# Altium footprint library sensornode.PcbLib: 55 footprints (part 1 of 4)
Each footprint in its own frame and in the unit in brackets; x right, y up, seen from the top. Pads: shape width x height; smd on the part's side, far side on the other; paste and mask are expansions set on the pad; w line width, h text height; cw(c..) or ccw(c..) is an arc to the next point about the centre after c.
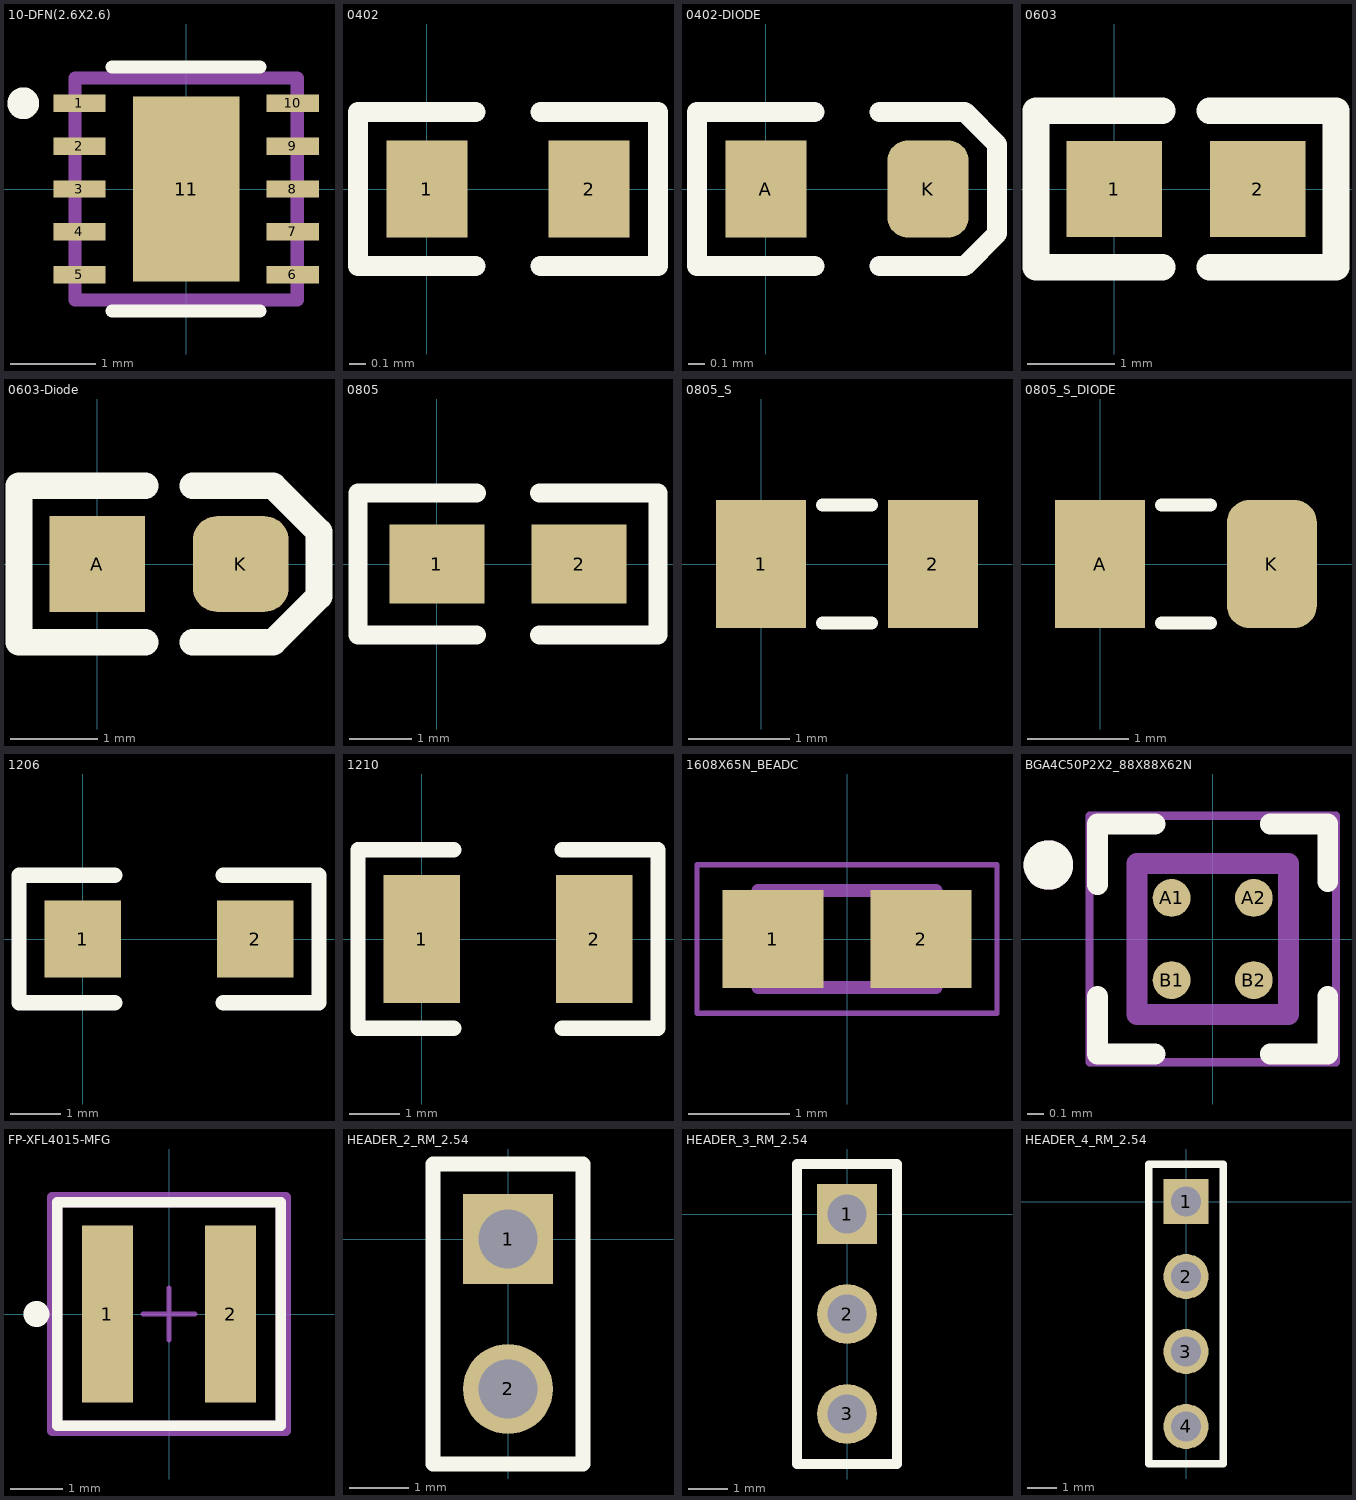
[diagram p0: the footprints below, top view; thin cyan lines are the x and y axes]

## 10-DFN(2.6X2.6) [mil]
pads (11):
  rect 24x8 smd: 1(-49,39.37) 2(-49,19.68) 3(-49,0) 4(-49,-19.68) 5(-49,-39.37) 6(49,-39.37) 7(49,-19.68) 8(49,0) 9(49,19.68) 10(49,39.37)
  rect 49x85 smd paste-78.74: 11(0,0)
Top Overlay:
  circle w10.63: c-74.8,39.37 r1.97
  lines w6: -34,-56 34,-56 ; -34,56 34,56
Mechanical 13:
  lines w6: -51,-51 51,-51 51,51 -51,51 -51,-51
3D body "step_temp.STEP": height 19.68, standoff 0, extent -51.18,-51.18 51.18,51.18

## 0402 [mil]
pads (2):
  rect 20x24 smd: 1(0,0) 2(40,0)
Top Overlay:
  lines w5: 12,-19 -17,-19 -17,19 12,19 ; 28,-19 57,-19 57,19 28,19
3D body: height 17.72, standoff 0, extent -8,-10 48,10

## 0402-DIODE [mil]
pads (2):
  rect 20x24 smd: A(0,0)
  rrect50% 20x24 smd: K(40,0)
Top Overlay:
  lines w5: 12,-19 -17,-19 -17,19 12,19 ; 28,-19 49,-19 57,-11 57,11 49,19 28,19
3D body: height 17.72, standoff 0, extent -8,-10 48,10

## 0603 [mm]
pads (2):
  rect 1.1x1.1 smd: 1(0,0) 2(1.65,0)
Top Overlay:
  lines w0.305: 0.55,-0.9 -0.9,-0.9 -0.9,0.9 0.55,0.9 ; 1.1,-0.9 2.55,-0.9 2.55,0.9 1.1,0.9
3D body: height 0.45, standoff 0, extent -0.45,-0.425 2.1,0.425

## 0603-Diode [mm]
pads (2):
  rect 1.1x1.1 smd: A(0,0)
  rrect50% 1.1x1.1 smd: K(1.65,0)
Top Overlay:
  lines w0.305: 0.55,-0.9 -0.9,-0.9 -0.9,0.9 0.55,0.9 ; 1.1,-0.9 2.021,-0.9 2.55,-0.371 2.55,0.371 2.021,0.9 1.1,0.9
3D body: height 0.45, standoff 0, extent -0.45,-0.425 2.1,0.425

## 0805 [mil]
pads (2):
  rect 60x50 smd: 1(0,0) 2(90,0)
Top Overlay:
  lines w12: 25,-45 -50,-45 -50,45 25,45 ; 65,-45 140,-45 140,45 65,45
3D body: height 51.18, standoff 0, extent 4.92,-24.61 84.65,24.61

## 0805_S [mil]
pads (2):
  rect 35x50 smd: 1(0,0) 2(67,0)
Top Overlay:
  lines w5: 24,-23 43,-23 ; 24,23 43,23
3D body: height 44, standoff 0, extent -7,-25 17,25
3D body: height 43, standoff 0, extent -6.08,-24.61 73.65,24.61
3D body: height 44, standoff 0, extent 50,-25 74,25

## 0805_S_DIODE [mil]
pads (2):
  rect 35x50 smd: A(0,0)
  rrect50% 35x50 smd: K(67,0)
Top Overlay:
  lines w5: 24,-23 43,-23 ; 24,23 43,23
3D body: height 44, standoff 0, extent 50,-25 74,25
3D body: height 43, standoff 0, extent -6.08,-24.61 73.65,24.61
3D body: height 44, standoff 0, extent -7,-25 17,25

## 1206 [mil]
pads (2):
  rect 60x60 smd: 1(0,0) 2(135,0)
Top Overlay:
  lines w12: 25,-50 -50,-50 -50,50 25,50 ; 110,-50 185,-50 185,50 110,50
3D body: height 51.18, standoff 0, extent 3.94,-31.49 129.92,31.5

## 1210 [mil]
pads (2):
  rect 60x100 smd: 1(0,0) 2(135,0)
Top Overlay:
  lines w12: 25,-70 -50,-70 -50,70 25,70 ; 110,-70 185,-70 185,70 110,70
3D body: height 51.18, standoff 0, extent 3.94,-49.21 130.91,49.21

## 1608X65N_BEADC [mm]
pads (2):
  rect 1x0.97 smd: 1(-0.735,0) 2(0.735,0)
Mechanical 13:
  lines w0.127: -0.88,-0.48 0.88,-0.48 0.88,0.48 -0.88,0.48 -0.88,-0.48
Mechanical 15:
  lines w0.05: -1.485,-0.735 1.485,-0.735 1.485,0.735 -1.485,0.735 -1.485,-0.735

## BGA4C50P2X2_88X88X62N [mm]
pads (4):
  round 0.23 smd: A1(-0.25,0.25) A2(0.25,0.25) B1(-0.25,-0.25) B2(0.25,-0.25)
Top Overlay:
  circle w0.15: c-1,0.45 r0.075
  lines w0.127: -0.7,-0.35 -0.7,-0.7 -0.35,-0.7 ; -0.7,0.33 -0.7,0.7 -0.35,0.7 ; 0.35,-0.7 0.7,-0.7 0.7,-0.35 ; 0.35,0.7 0.7,0.7 0.7,0.35
Mechanical 13:
  circle w0.15: c-1,0.45 r0.075
  lines w0.127: -0.46,-0.46 0.46,-0.46 0.46,0.46 -0.46,0.46 -0.46,-0.46
Mechanical 15:
  lines w0.05: -0.75,-0.75 0.75,-0.75 0.75,0.75 -0.75,0.75 -0.75,-0.75
3D body "TPS22908YZTR.STEP": height 0.63, standoff 0, extent -0.444,-0.444 0.444,0.444

## FP-XFL4015-MFG [mm]
pads (2):
  rect 0.98x3.4 smd paste+0 mask+0: 1(-1.185,0) 2(1.185,0)
Top Overlay:
  circle w0.25: c-2.55,0 r0.125
  lines w0.2: -2.15,-2.15 -2.15,2.15 2.15,2.15 2.15,-2.15 -2.15,-2.15
Top 3D Body:
  lines w0.2: -2.15,-2.15 -2.15,2.15 2.15,2.15 2.15,-2.15 -2.15,-2.15
Top Courtyard:
  lines w0.2: -2.25,-2.25 -2.25,2.25 2.25,2.25 2.25,-2.25 -2.25,-2.25
Top Assembly:
  lines w0.2: -2.25,-2.25 -2.25,2.25 2.25,2.25 2.25,-2.25 -2.25,-2.25
  text ".Designator" at 0,0.188 h1
Top Component Center:
  lines w0.1: -0.5,0 0.5,0 ; 0,-0.5 0,0.5
3D body "Ind_Coilcraft_XFL4015-471MEB_eec.STEP": height 0.25, standoff 0, extent -2.25,-2.25 2.25,2.25

## HEADER_2_RM_2.54 [mil] "Header 2 Pin 2.54mm"
pads (2):
  rect 60x60 hole 39.37: 1(0,0)
  round 60 hole 39.37: 2(0,-100)
Top Overlay:
  lines w10: -50,-150 50,-150 50,50 -50,50 -50,-150
3D body: height 393.7, standoff -78.74, extent -13.78,-13.78 13.78,13.78
3D body: height 393.7, standoff -78.74, extent -13.78,-113.78 13.78,-86.22
3D body: height 59.06, standoff 0, extent -50,-150 50,50

## HEADER_3_RM_2.54 [mil] "Header 3 Pin 2.54mm"
pads (3):
  rect 60x60 hole 39.37: 1(0,0)
  round 60 hole 39.37: 2(0,-100) 3(0,-200)
Top Overlay:
  lines w10: -50,-250 50,-250 50,50 -50,50 -50,-250
3D body: height 393.7, standoff -78.74, extent -13.78,-213.78 13.78,-186.22
3D body: height 393.7, standoff -78.74, extent -13.78,-13.78 13.78,13.78
3D body: height 393.7, standoff -78.74, extent -13.78,-113.78 13.78,-86.22
3D body: height 59.06, standoff 0, extent -50,-250 50,50

## HEADER_4_RM_2.54 [mil] "Header 4 Pin 2.54mm"
pads (4):
  rect 60x60 hole 39.37: 1(0,0)
  round 60 hole 39.37: 2(0,-100) 3(-0.01,-200.01) 4(0,-300)
Top Overlay:
  lines w10: -50,-350 -50,50 50,50 50,-350 -50,-350
3D body: height 393.7, standoff -78.74, extent -13.78,-313.78 13.78,-286.22
3D body: height 59.06, standoff 0, extent -50,-350 50,50
3D body: height 393.7, standoff -78.74, extent -13.78,-113.78 13.78,-86.22
3D body: height 393.7, standoff -78.74, extent -13.78,-13.78 13.78,13.78
3D body: height 393.7, standoff -78.74, extent -13.78,-213.78 13.78,-186.22